# Altium integrated library S25HL512TDPNHI010.IntLib: 1 symbol
Pins are listed as number, name and electrical type; pins without a type are passive.

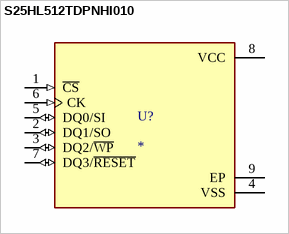
[diagram p0: symbol S25HL512TDPNHI010]

## S25HL512TDPNHI010
designator U?
NOR Flash Serial (SPI, Dual SPI, Quad SPI) 3V/3.3V 512M-bit 64M x 8 8-Pin WSON EP Tray; MF: Infineon Technologies; MP: S25HL512TDPNHI010; SnapEDA_Link: https://www.snapeda.com/parts/S25HL512TDPNHI010/Infineon/view-part/?ref=snap; Package: None; Value: *; Check_prices: https://www.snapeda.com/parts/S25HL512TDPNHI010/Infineon/view-part/?ref=eda
footprint SON127P600X800X80-9N
pins: 1 ~{CS} (in), 2 DQ1/SO (io), 3 DQ2/~{WP} (io), 4 VSS (power), 5 DQ0/SI (io), 6 CK (in), 7 DQ3/~{RESET} (io), 8 VCC (power), 9 EP